# EAGLE library part TYCO-A1037 (library upra_lib4eagle)
TYCO-A1037 GPS Module For testing and prototyping. Max. Altitude: 10000m (with original firmware) Discontinued! Use uBlox NEO xM series!
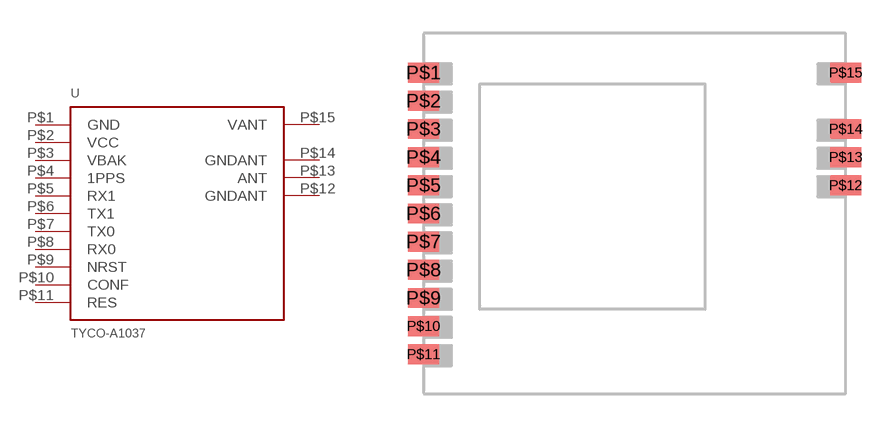
[diagram p1: symbol with the pads of A1037; footprint A1037]

Designator prefix -

## TYCO-A1037-STANDALONE (MAX_ALTITUDE: 10000m)  [A1037]
P$1  GND
P$2  VCC
P$3  VBAK
P$4  1PPS
P$5  RX1
P$6  TX1
P$7  TX0
P$8  RX0
P$9  NRST
P$10  CONF
P$11  RES
P$12  GNDANT
P$13  ANT
P$14  GNDANT
P$15  VANT

## Footprint A1037 (pad centres in mm)
smd 1.4 x 0.9: P$1 0,14.478; P$2 0,13.208; P$3 0,11.938; P$4 0,10.668; P$5 0,9.398; P$6 0,8.128; P$7 0,6.858; P$8 0,5.588; P$9 0,4.318; P$10 0,3.048; P$11 0,1.778; P$12 19.05,9.398; P$13 19.05,10.668; P$14 19.05,11.938; P$15 19.05,14.478